# Altium footprint library 6smd300.PcbLib: 1 footprints
Each footprint in its own frame and in the unit in brackets; x right, y up, seen from the top. Pads: shape width x height; smd on the part's side, far side on the other; paste and mask are expansions set on the pad; w line width, h text height; cw(c..) or ccw(c..) is an arc to the next point about the centre after c.
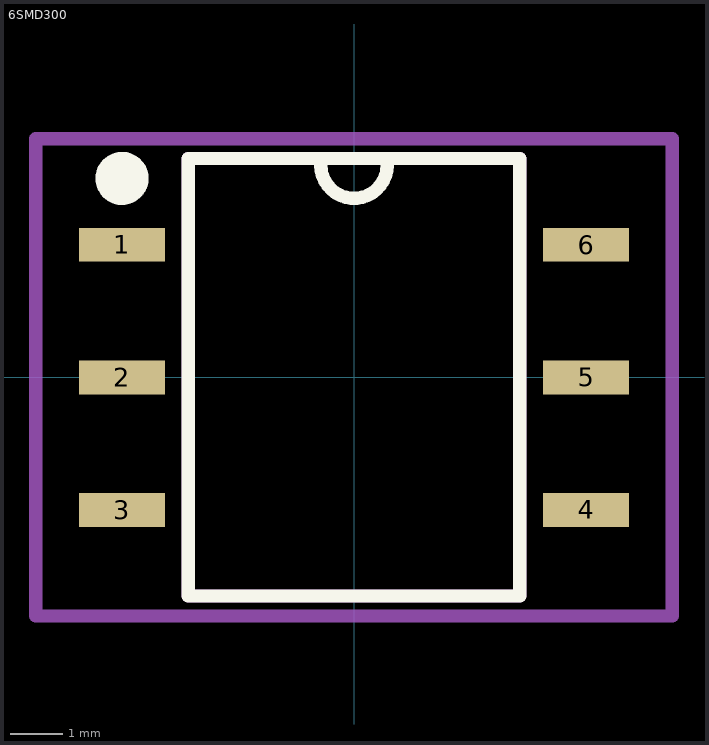
[diagram p0: the footprint, top view; thin cyan lines are the x and y axes]

## 6SMD300 [mm]
pads (6):
  rect 1.65x0.65 smd: 1(-4.445,2.54) 2(-4.445,0) 3(-4.445,-2.54) 4(4.445,-2.54) 5(4.445,0) 6(4.445,2.54)
Top Overlay:
  circle w0.508: c-4.445,3.81 r0.254
  lines w0.254: -0.635,4.064 ccw(c0,4.064) 0.635,4.064 ; -3.175,-4.191 3.175,-4.191 3.175,4.191 -3.175,4.191 -3.175,-4.191
Top 3D Body:
  lines w0.254: -3.175,-4.191 3.175,-4.191 3.175,4.191 -3.175,4.191 -3.175,-4.191
Top Courtyard:
  lines w0.254: -6.096,-4.572 6.096,-4.572 6.096,4.572 -6.096,4.572 -6.096,-4.572
Top Designator (Mech17):
  text ".Designator" at -1.247,-0.158 h0.6
3D body "DIP6-OP7.STEP": height 4.38, standoff 0.01, extent -5.15,-4.3 5.15,4.3